# Altium schematic symbol library domino-spring-clamp.SchLib: 257 symbols (part 2 of 4)
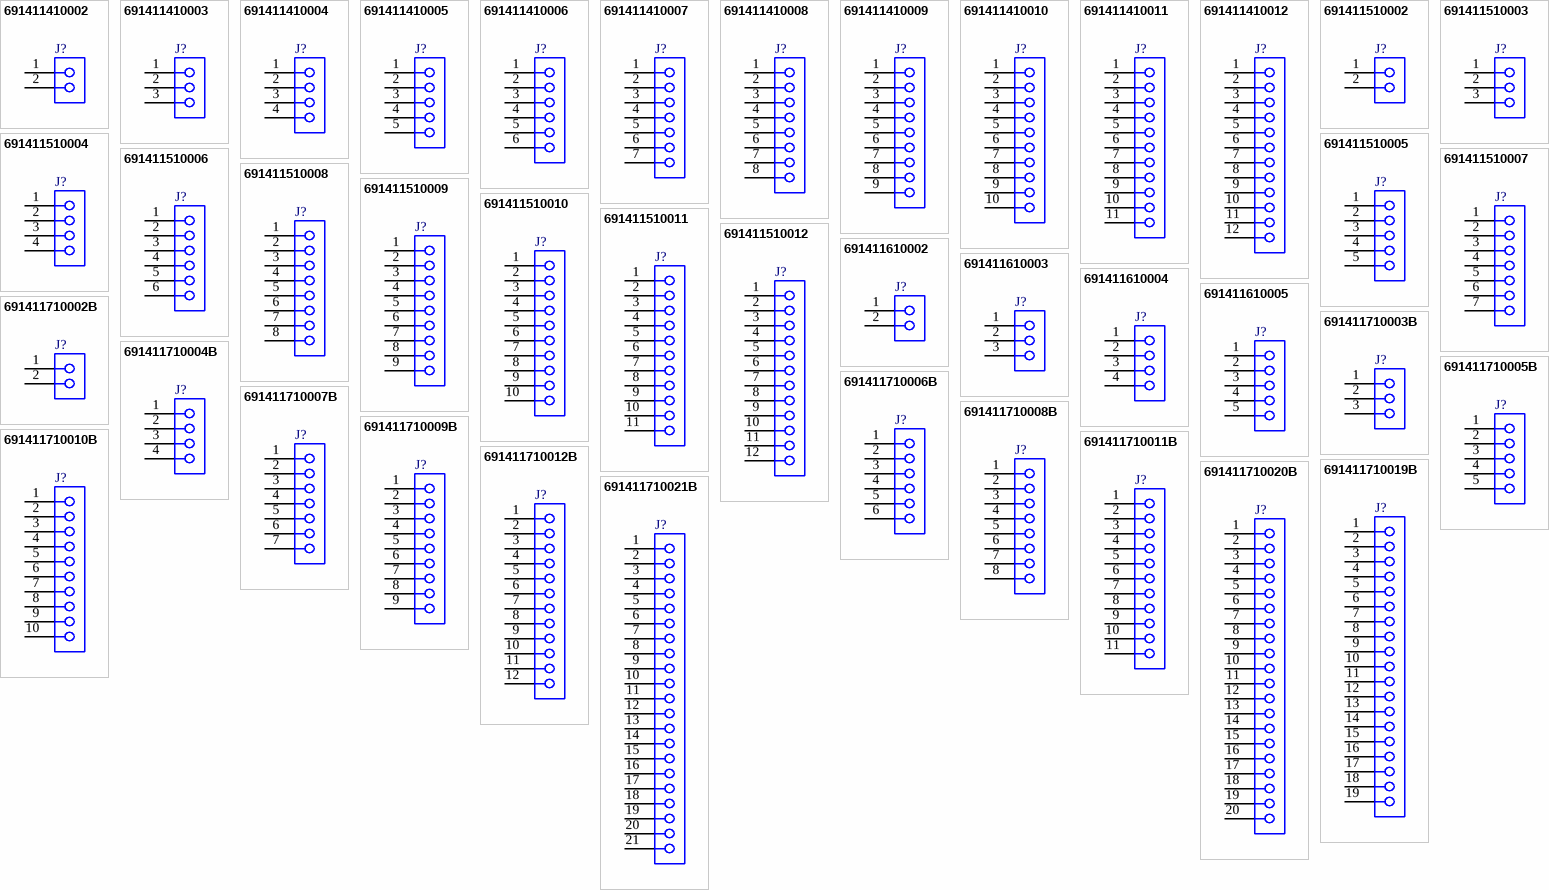
[diagram p7: symbols 691411410002 to 691411710021B]

## 691411710006B
designator J?
WR-TBL Serie 411B Horizontal Entry, Screwless, pitch 5mm, 6p; Part Number: 691411710006B; Compliance: RoHS; Modularity: No; PCB/Cable/Panel: PCB; Pin Number: 6; Rated Current [UL]: 10A; Working Voltage [UL]: 300VAC; ComponentLink1Description: Manufacturer; ComponentLink1URL: http://www.we-online.de; ComponentLink2URL: https://katalog.we-online.de/em/datasheet/691411710006B.pdf; ComponentLink2Description: Datasheet; Mounting Technology: THT; Packaging: Box; Operating Temperature: -40 to +105degC; Pitch: 5mm; Published Date: October 2019; Type: Horizontal; Publisher: Wurth Elektronik; Application: Screwless
footprint 691411710006B
pins: 1, 2, 3, 4, 5, 6

## 691411710007B
designator J?
WR-TBL Serie 411B Horizontal Entry, Screwless, pitch 5mm, 7p; Part Number: 691411710007B; Compliance: RoHS; Modularity: No; PCB/Cable/Panel: PCB; Pin Number: 7; Rated Current [UL]: 10A; Working Voltage [UL]: 300VAC; ComponentLink1Description: Manufacturer; ComponentLink1URL: http://www.we-online.de; ComponentLink2URL: https://katalog.we-online.de/em/datasheet/691411710007B.pdf; ComponentLink2Description: Datasheet; Mounting Technology: THT; Packaging: Box; Operating Temperature: -40 to +105degC; Pitch: 5mm; Published Date: October 2019; Type: Horizontal; Publisher: Wurth Elektronik; Application: Screwless
footprint 691411710007B
pins: 1, 2, 3, 4, 5, 6, 7

## 691411710008B
designator J?
WR-TBL Serie 411B Horizontal Entry, Screwless, pitch 5mm, 8p; Part Number: 691411710008B; Compliance: RoHS; Modularity: No; PCB/Cable/Panel: PCB; Pin Number: 8; Rated Current [UL]: 10A; Working Voltage [UL]: 300VAC; ComponentLink1Description: Manufacturer; ComponentLink1URL: http://www.we-online.de; ComponentLink2URL: https://katalog.we-online.de/em/datasheet/691411710008B.pdf; ComponentLink2Description: Datasheet; Mounting Technology: THT; Packaging: Box; Operating Temperature: -40 to +105degC; Pitch: 5mm; Published Date: October 2019; Type: Horizontal; Publisher: Wurth Elektronik; Application: Screwless
footprint 691411710008B
pins: 1, 2, 3, 4, 5, 6, 7, 8

## 691411710009B
designator J?
WR-TBL Serie 411B Horizontal Entry, Screwless, pitch 5mm, 9p; Part Number: 691411710009B; Compliance: RoHS; Modularity: No; PCB/Cable/Panel: PCB; Pin Number: 9; Rated Current [UL]: 10A; Working Voltage [UL]: 300VAC; ComponentLink1Description: Manufacturer; ComponentLink1URL: http://www.we-online.de; ComponentLink2URL: https://katalog.we-online.de/em/datasheet/691411710009B.pdf; ComponentLink2Description: Datasheet; Mounting Technology: THT; Packaging: Box; Operating Temperature: -40 to +105degC; Pitch: 5mm; Published Date: October 2019; Type: Horizontal; Publisher: Wurth Elektronik; Application: Screwless
footprint 691411710009B
pins: 1, 2, 3, 4, 5, 6, 7, 8, 9

## 691411710010B
designator J?
WR-TBL Serie 411B Horizontal Entry, Screwless, pitch 5mm, 10p; Part Number: 691411710010B; Compliance: RoHS; Modularity: No; PCB/Cable/Panel: PCB; Pin Number: 10; Rated Current [UL]: 10A; Working Voltage [UL]: 300VAC; ComponentLink1Description: Manufacturer; ComponentLink1URL: http://www.we-online.de; ComponentLink2URL: https://katalog.we-online.de/em/datasheet/691411710010B.pdf; ComponentLink2Description: Datasheet; Mounting Technology: THT; Packaging: Box; Operating Temperature: -40 to +105degC; Pitch: 5mm; Published Date: October 2019; Type: Horizontal; Publisher: Wurth Elektronik; Application: Screwless
footprint 691411710010B
pins: 1, 2, 3, 4, 5, 6, 7, 8, 9, 10

## 691411710011B
designator J?
WR-TBL Serie 411B Horizontal Entry, Screwless, pitch 5mm, 11p; Part Number: 691411710011B; Compliance: RoHS; Modularity: No; PCB/Cable/Panel: PCB; Pin Number: 11; Rated Current [UL]: 10A; Working Voltage [UL]: 300VAC; ComponentLink1Description: Manufacturer; ComponentLink1URL: http://www.we-online.de; ComponentLink2URL: https://katalog.we-online.de/em/datasheet/691411710011B.pdf; ComponentLink2Description: Datasheet; Mounting Technology: THT; Packaging: Box; Operating Temperature: -40 to +105degC; Pitch: 5mm; Published Date: October 2019; Type: Horizontal; Publisher: Wurth Elektronik; Application: Screwless
footprint 691411710011B
pins: 1, 2, 3, 4, 5, 6, 7, 8, 9, 10, 11

## 691411710012B
designator J?
WR-TBL Serie 411B Horizontal Entry, Screwless, pitch 5mm, 12p; Part Number: 691411710012B; Compliance: RoHS; Modularity: No; PCB/Cable/Panel: PCB; Pin Number: 12; Rated Current [UL]: 10A; Working Voltage [UL]: 300VAC; ComponentLink1Description: Manufacturer; ComponentLink1URL: http://www.we-online.de; ComponentLink2URL: https://katalog.we-online.de/em/datasheet/691411710012B.pdf; ComponentLink2Description: Datasheet; Mounting Technology: THT; Packaging: Box; Operating Temperature: -40 to +105degC; Pitch: 5mm; Published Date: October 2019; Type: Horizontal; Publisher: Wurth Elektronik; Application: Screwless
footprint 691411710012B
pins: 1, 2, 3, 4, 5, 6, 7, 8, 9, 10, 11, 12

## 691411710019B
designator J?
WR-TBL Serie 411B Horizontal Entry, Screwless, pitch 5mm, 19p; Part Number: 691411710019B; Compliance: RoHS; Modularity: No; PCB/Cable/Panel: PCB; Pin Number: 19; Rated Current [UL]: 10A; Working Voltage [UL]: 300VAC; ComponentLink1Description: Manufacturer; ComponentLink1URL: http://www.we-online.de; ComponentLink2URL: https://katalog.we-online.de/em/datasheet/691411710019B.pdf; ComponentLink2Description: Datasheet; Mounting Technology: THT; Packaging: Box; Operating Temperature: -40 to +105degC; Pitch: 5mm; Published Date: October 2019; Type: Horizontal; Publisher: Wurth Elektronik; Application: Screwless
footprint 691411710019B
pins: 1, 2, 3, 4, 5, 6, 7, 8, 9, 10, 11, 12, 13, 14, 15, 16, 17, 18, 19

## 691411710020B
designator J?
WR-TBL Serie 411B Horizontal Entry, Screwless, pitch 5mm, 20p; Part Number: 691411710020B; Compliance: RoHS; Modularity: No; PCB/Cable/Panel: PCB; Pin Number: 20; Rated Current [UL]: 10A; Working Voltage [UL]: 300VAC; ComponentLink1Description: Manufacturer; ComponentLink1URL: http://www.we-online.de; ComponentLink2URL: https://katalog.we-online.de/em/datasheet/691411710020B.pdf; ComponentLink2Description: Datasheet; Mounting Technology: THT; Packaging: Box; Operating Temperature: -40 to +105degC; Pitch: 5mm; Published Date: October 2019; Type: Horizontal; Publisher: Wurth Elektronik; Application: Screwless
footprint 691411710020B
pins: 1, 2, 3, 4, 5, 6, 7, 8, 9, 10, 11, 12, 13, 14, 15, 16, 17, 18, 19, 20

## 691411710021B
designator J?
WR-TBL Serie 411B Horizontal Entry, Screwless, pitch 5mm, 21p; Part Number: 691411710021B; Compliance: RoHS; Modularity: No; PCB/Cable/Panel: PCB; Pin Number: 21; Rated Current [UL]: 10A; Working Voltage [UL]: 300VAC; ComponentLink1Description: Manufacturer; ComponentLink1URL: http://www.we-online.de; ComponentLink2URL: https://katalog.we-online.de/em/datasheet/691411710021B.pdf; ComponentLink2Description: Datasheet; Mounting Technology: THT; Packaging: Box; Operating Temperature: -40 to +105degC; Pitch: 5mm; Published Date: October 2019; Type: Horizontal; Publisher: Wurth Elektronik; Application: Screwless
footprint 691411710021B
pins: 1, 2, 3, 4, 5, 6, 7, 8, 9, 10, 11, 12, 13, 14, 15, 16, 17, 18, 19, 20, 21

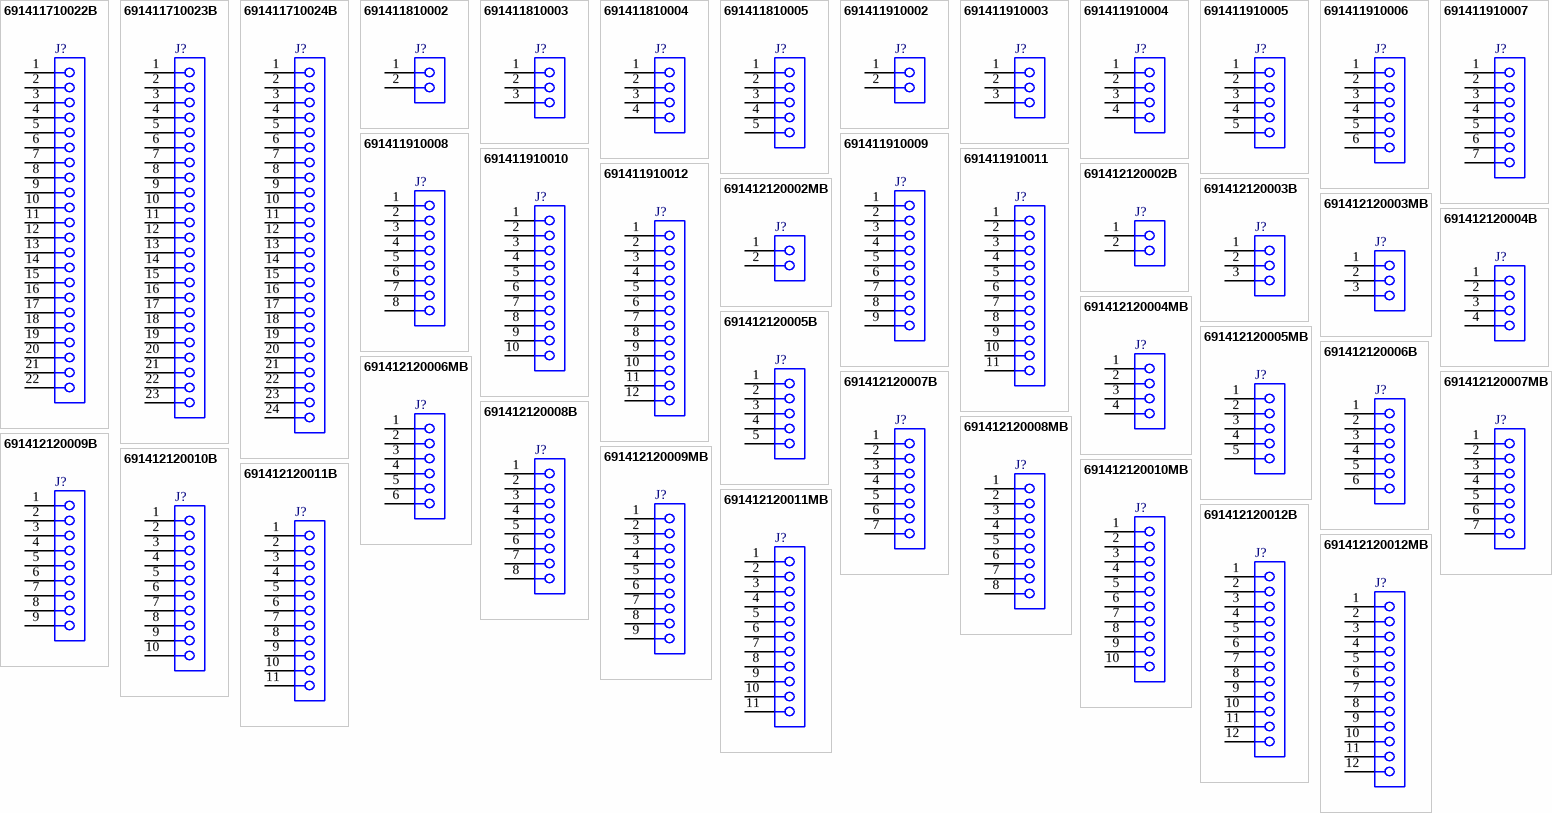
[diagram p2: symbols 691411710022B to 691412120012MB]

## 691411710022B
designator J?
WR-TBL Serie 411B Horizontal Entry, Screwless, pitch 5mm, 22p; Part Number: 691411710022B; Compliance: RoHS; Modularity: No; PCB/Cable/Panel: PCB; Pin Number: 22; Rated Current [UL]: 10A; Working Voltage [UL]: 300VAC; ComponentLink1Description: Manufacturer; ComponentLink1URL: http://www.we-online.de; ComponentLink2URL: https://katalog.we-online.de/em/datasheet/691411710022B.pdf; ComponentLink2Description: Datasheet; Mounting Technology: THT; Packaging: Box; Operating Temperature: -40 to +105degC; Pitch: 5mm; Published Date: October 2019; Type: Horizontal; Publisher: Wurth Elektronik; Application: Screwless
footprint 691411710022B
pins: 1, 2, 3, 4, 5, 6, 7, 8, 9, 10, 11, 12, 13, 14, 15, 16, 17, 18, 19, 20, 21, 22

## 691411710023B
designator J?
WR-TBL Serie 411B Horizontal Entry, Screwless, pitch 5mm, 23p; Part Number: 691411710023B; Compliance: RoHS; Modularity: No; PCB/Cable/Panel: PCB; Pin Number: 23; Rated Current [UL]: 10A; Working Voltage [UL]: 300VAC; ComponentLink1Description: Manufacturer; ComponentLink1URL: http://www.we-online.de; ComponentLink2URL: https://katalog.we-online.de/em/datasheet/691411710023B.pdf; ComponentLink2Description: Datasheet; Mounting Technology: THT; Packaging: Box; Operating Temperature: -40 to +105degC; Pitch: 5mm; Published Date: October 2019; Type: Horizontal; Publisher: Wurth Elektronik; Application: Screwless
footprint 691411710023B
pins: 1, 2, 3, 4, 5, 6, 7, 8, 9, 10, 11, 12, 13, 14, 15, 16, 17, 18, 19, 20, 21, 22, 23

## 691411710024B
designator J?
WR-TBL Serie 411B Horizontal Entry, Screwless, pitch 5mm, 24p; Part Number: 691411710024B; Compliance: RoHS; Modularity: No; PCB/Cable/Panel: PCB; Pin Number: 24; Rated Current [UL]: 10A; Working Voltage [UL]: 300VAC; ComponentLink1Description: Manufacturer; ComponentLink1URL: http://www.we-online.de; ComponentLink2URL: https://katalog.we-online.de/em/datasheet/691411710024B.pdf; ComponentLink2Description: Datasheet; Mounting Technology: THT; Packaging: Box; Operating Temperature: -40 to +105degC; Pitch: 5mm; Published Date: October 2019; Type: Horizontal; Publisher: Wurth Elektronik; Application: Screwless
footprint 691411710024B
pins: 1, 2, 3, 4, 5, 6, 7, 8, 9, 10, 11, 12, 13, 14, 15, 16, 17, 18, 19, 20, 21, 22, 23, 24

## 691411810002
designator J?
WR-TBL Serie 4118 Horizontal Entry, Screwless, pitch 10mm, 2p; Part Number: 691411810002; Compliance: Lead free / RoHS; Modularity: No; PCB/Cable/Panel: PCB; Pin Number: 2; Rated Current [UL]: 10A; Working Voltage [UL]: 300VAC; ComponentLink1Description: Manufacturer; ComponentLink1URL: http://www.we-online.de; ComponentLink2URL: https://katalog.we-online.de/em/datasheet/691411810002.pdf; ComponentLink2Description: Datasheet; Mounting Technology: THT; Packaging: Box; Operating Temperature: -30 to +120degC; Pitch: 10mm; Published Date: October 2019; Type: Horizontal; Publisher: Wurth Elektronik; Application: Screwless
footprint 691411810002
pins: 1, 2

## 691411810003
designator J?
WR-TBL Serie 4118 Horizontal Entry, Screwless, pitch 10mm, 3p; Part Number: 691411810003; Compliance: Lead free / RoHS; Modularity: No; PCB/Cable/Panel: PCB; Pin Number: 3; Rated Current [UL]: 10A; Working Voltage [UL]: 300VAC; ComponentLink1Description: Manufacturer; ComponentLink1URL: http://www.we-online.de; ComponentLink2URL: https://katalog.we-online.de/em/datasheet/691411810003.pdf; ComponentLink2Description: Datasheet; Mounting Technology: THT; Packaging: Box; Operating Temperature: -30 to +120degC; Pitch: 10mm; Published Date: October 2019; Type: Horizontal; Publisher: Wurth Elektronik; Application: Screwless
footprint 691411810003
pins: 1, 2, 3

## 691411810004
designator J?
WR-TBL Serie 4118 Horizontal Entry, Screwless, pitch 10mm, 4p; Part Number: 691411810004; Compliance: Lead free / RoHS; Modularity: No; PCB/Cable/Panel: PCB; Pin Number: 4; Rated Current [UL]: 10A; Working Voltage [UL]: 300VAC; ComponentLink1Description: Manufacturer; ComponentLink1URL: http://www.we-online.de; ComponentLink2URL: https://katalog.we-online.de/em/datasheet/691411810004.pdf; ComponentLink2Description: Datasheet; Mounting Technology: THT; Packaging: Box; Operating Temperature: -30 to +120degC; Pitch: 10mm; Published Date: October 2019; Type: Horizontal; Publisher: Wurth Elektronik; Application: Screwless
footprint 691411810004
pins: 1, 2, 3, 4

## 691411810005
designator J?
WR-TBL Serie 4118 Horizontal Entry, Screwless, pitch 10mm, 5p; Part Number: 691411810005; Compliance: Lead free / RoHS; Modularity: No; PCB/Cable/Panel: PCB; Pin Number: 5; Rated Current [UL]: 10A; Working Voltage [UL]: 300VAC; ComponentLink1Description: Manufacturer; ComponentLink1URL: http://www.we-online.de; ComponentLink2URL: https://katalog.we-online.de/em/datasheet/691411810005.pdf; ComponentLink2Description: Datasheet; Mounting Technology: THT; Packaging: Box; Operating Temperature: -30 to +120degC; Pitch: 10mm; Published Date: October 2019; Type: Horizontal; Publisher: Wurth Elektronik; Application: Screwless
footprint 691411810005
pins: 1, 2, 3, 4, 5

## 691411910002
designator J?
WR-TBL Serie 4119 Horizontal Entry, Screwless, pitch 7.5mm, 2p; Part Number: 691411910002; Compliance: ROHS & Reach; Modularity: No; PCB/Cable/Panel: PCB; Pin Number: 2; Rated Current [UL]: 10A; Working Voltage [UL]: 300VAC; ComponentLink1Description: Manufacturer; ComponentLink1URL: http://www.we-online.de; ComponentLink2URL: https://katalog.we-online.de/em/datasheet/691411910002.pdf; ComponentLink2Description: Datasheet; Mounting Technology: THT; Packaging: Box; Operating Temperature: -30 to +120degC; Pitch: 7.5mm; Published Date: October 2019; Type: Horizontal; Publisher: Wurth Elektronik; Application: Screwless
footprint 691411910002
pins: 1, 2

## 691411910003
designator J?
WR-TBL Serie 4119 Horizontal Entry, Screwless, pitch 7.5mm, 3p; Part Number: 691411910003; Compliance: ROHS & Reach; Modularity: No; PCB/Cable/Panel: PCB; Pin Number: 3; Rated Current [UL]: 10A; Working Voltage [UL]: 300VAC; ComponentLink1Description: Manufacturer; ComponentLink1URL: http://www.we-online.de; ComponentLink2URL: https://katalog.we-online.de/em/datasheet/691411910003.pdf; ComponentLink2Description: Datasheet; Mounting Technology: THT; Packaging: Box; Operating Temperature: -30 to +120degC; Pitch: 7.5mm; Published Date: October 2019; Type: Horizontal; Publisher: Wurth Elektronik; Application: Screwless
footprint 691411910003
pins: 1, 2, 3

## 691411910004
designator J?
WR-TBL Serie 4119 Horizontal Entry, Screwless, pitch 7.5mm, 4p; Part Number: 691411910004; Compliance: ROHS & Reach; Modularity: No; PCB/Cable/Panel: PCB; Pin Number: 4; Rated Current [UL]: 10A; Working Voltage [UL]: 300VAC; ComponentLink1Description: Manufacturer; ComponentLink1URL: http://www.we-online.de; ComponentLink2URL: https://katalog.we-online.de/em/datasheet/691411910004.pdf; ComponentLink2Description: Datasheet; Mounting Technology: THT; Packaging: Box; Operating Temperature: -30 to +120degC; Pitch: 7.5mm; Published Date: October 2019; Type: Horizontal; Publisher: Wurth Elektronik; Application: Screwless
footprint 691411910004
pins: 1, 2, 3, 4

## 691411910005
designator J?
WR-TBL Serie 4119 Horizontal Entry, Screwless, pitch 7.5mm, 5p; Part Number: 691411910005; Compliance: ROHS & Reach; Modularity: No; PCB/Cable/Panel: PCB; Pin Number: 5; Rated Current [UL]: 10A; Working Voltage [UL]: 300VAC; ComponentLink1Description: Manufacturer; ComponentLink1URL: http://www.we-online.de; ComponentLink2URL: https://katalog.we-online.de/em/datasheet/691411910005.pdf; ComponentLink2Description: Datasheet; Mounting Technology: THT; Packaging: Box; Operating Temperature: -30 to +120degC; Pitch: 7.5mm; Published Date: October 2019; Type: Horizontal; Publisher: Wurth Elektronik; Application: Screwless
footprint 691411910005
pins: 1, 2, 3, 4, 5

## 691411910006
designator J?
WR-TBL Serie 4119 Horizontal Entry, Screwless, pitch 7.5mm, 6p; Part Number: 691411910006; Compliance: ROHS & Reach; Modularity: No; PCB/Cable/Panel: PCB; Pin Number: 6; Rated Current [UL]: 10A; Working Voltage [UL]: 300VAC; ComponentLink1Description: Manufacturer; ComponentLink1URL: http://www.we-online.de; ComponentLink2URL: https://katalog.we-online.de/em/datasheet/691411910006.pdf; ComponentLink2Description: Datasheet; Mounting Technology: THT; Packaging: Box; Operating Temperature: -30 to +120degC; Pitch: 7.5mm; Published Date: October 2019; Type: Horizontal; Publisher: Wurth Elektronik; Application: Screwless
footprint 691411910006
pins: 1, 2, 3, 4, 5, 6

## 691411910007
designator J?
WR-TBL Serie 4119 Horizontal Entry, Screwless, pitch 7.5mm, 7p; Part Number: 691411910007; Compliance: ROHS & Reach; Modularity: No; PCB/Cable/Panel: PCB; Pin Number: 7; Rated Current [UL]: 10A; Working Voltage [UL]: 300VAC; ComponentLink1Description: Manufacturer; ComponentLink1URL: http://www.we-online.de; ComponentLink2URL: https://katalog.we-online.de/em/datasheet/691411910007.pdf; ComponentLink2Description: Datasheet; Mounting Technology: THT; Packaging: Box; Operating Temperature: -30 to +120degC; Pitch: 7.5mm; Published Date: October 2019; Type: Horizontal; Publisher: Wurth Elektronik; Application: Screwless
footprint 691411910007
pins: 1, 2, 3, 4, 5, 6, 7

## 691411910008
designator J?
WR-TBL Serie 4119 Horizontal Entry, Screwless, pitch 7.5mm, 8p; Part Number: 691411910008; Compliance: ROHS & Reach; Modularity: No; PCB/Cable/Panel: PCB; Pin Number: 8; Rated Current [UL]: 10A; Working Voltage [UL]: 300VAC; ComponentLink1Description: Manufacturer; ComponentLink1URL: http://www.we-online.de; ComponentLink2URL: https://katalog.we-online.de/em/datasheet/691411910008.pdf; ComponentLink2Description: Datasheet; Mounting Technology: THT; Packaging: Box; Operating Temperature: -30 to +120degC; Pitch: 7.5mm; Published Date: October 2019; Type: Horizontal; Publisher: Wurth Elektronik; Application: Screwless
footprint 691411910008
pins: 1, 2, 3, 4, 5, 6, 7, 8

## 691411910009
designator J?
WR-TBL Serie 4119 Horizontal Entry, Screwless, pitch 7.5mm, 9p; Part Number: 691411910009; Compliance: ROHS & Reach; Modularity: No; PCB/Cable/Panel: PCB; Pin Number: 9; Rated Current [UL]: 10A; Working Voltage [UL]: 300VAC; ComponentLink1Description: Manufacturer; ComponentLink1URL: http://www.we-online.de; ComponentLink2URL: https://katalog.we-online.de/em/datasheet/691411910009.pdf; ComponentLink2Description: Datasheet; Mounting Technology: THT; Packaging: Box; Operating Temperature: -30 to +120degC; Pitch: 7.5mm; Published Date: October 2019; Type: Horizontal; Publisher: Wurth Elektronik; Application: Screwless
footprint 691411910009
pins: 1, 2, 3, 4, 5, 6, 7, 8, 9

## 691411910010
designator J?
WR-TBL Serie 4119 Horizontal Entry, Screwless, pitch 7.5mm, 10p; Part Number: 691411910010; Compliance: ROHS & Reach; Modularity: No; PCB/Cable/Panel: PCB; Pin Number: 10; Rated Current [UL]: 10A; Working Voltage [UL]: 300VAC; ComponentLink1Description: Manufacturer; ComponentLink1URL: http://www.we-online.de; ComponentLink2URL: https://katalog.we-online.de/em/datasheet/691411910010.pdf; ComponentLink2Description: Datasheet; Mounting Technology: THT; Packaging: Box; Operating Temperature: -30 to +120degC; Pitch: 7.5mm; Published Date: October 2019; Type: Horizontal; Publisher: Wurth Elektronik; Application: Screwless
footprint 691411910010
pins: 1, 2, 3, 4, 5, 6, 7, 8, 9, 10

## 691411910011
designator J?
WR-TBL Serie 4119 Horizontal Entry, Screwless, pitch 7.5mm, 11p; Part Number: 691411910011; Compliance: ROHS & Reach; Modularity: No; PCB/Cable/Panel: PCB; Pin Number: 11; Rated Current [UL]: 10A; Working Voltage [UL]: 300VAC; ComponentLink1Description: Manufacturer; ComponentLink1URL: http://www.we-online.de; ComponentLink2URL: https://katalog.we-online.de/em/datasheet/691411910011.pdf; ComponentLink2Description: Datasheet; Mounting Technology: THT; Packaging: Box; Operating Temperature: -30 to +120degC; Pitch: 7.5mm; Published Date: October 2019; Type: Horizontal; Publisher: Wurth Elektronik; Application: Screwless
footprint 691411910011
pins: 1, 2, 3, 4, 5, 6, 7, 8, 9, 10, 11

## 691411910012
designator J?
WR-TBL Serie 4119 Horizontal Entry, Screwless, pitch 7.5mm, 12p; Part Number: 691411910012; Compliance: ROHS & Reach; Modularity: No; PCB/Cable/Panel: PCB; Pin Number: 12; Rated Current [UL]: 10A; Working Voltage [UL]: 300VAC; ComponentLink1Description: Manufacturer; ComponentLink1URL: http://www.we-online.de; ComponentLink2URL: https://katalog.we-online.de/em/datasheet/691411910012.pdf; ComponentLink2Description: Datasheet; Mounting Technology: THT; Packaging: Box; Operating Temperature: -30 to +120degC; Pitch: 7.5mm; Published Date: October 2019; Type: Horizontal; Publisher: Wurth Elektronik; Application: Screwless
footprint 691411910012
pins: 1, 2, 3, 4, 5, 6, 7, 8, 9, 10, 11, 12

## 691412120002B
designator J?
WR-TBL Serie 412B 45deg Entry, Screwless, pitch 3.5mm, 2p; Part Number: 691412120002B; Compliance: RoHS; Modularity: No; PCB/Cable/Panel: PCB; Pin Number: 2; Rated Current [UL]: 6A; Working Voltage [UL]: 300VAC; ComponentLink1Description: Manufacturer; ComponentLink1URL: http://www.we-online.de; ComponentLink2URL: https://katalog.we-online.de/em/datasheet/691412120002B.pdf; ComponentLink2Description: Datasheet; Mounting Technology: THT; Packaging: Box; Operating Temperature: -40 to +105degC; Pitch: 3.5mm; Published Date: October 2019; Type: 45deg; Publisher: Wurth Elektronik; Application: Screwless
footprint 691412120002B
pins: 1, 2

## 691412120002MB
designator J?
WR-TBL Serie 412MB 45deg Entry, Screwless, pitch 3.5mm, 2p; Part Number: 691412120002MB; Compliance: RoHS; Modularity: No; PCB/Cable/Panel: PCB; Pin Number: 2; Rated Current [UL]: 6A; Working Voltage [UL]: 300VAC; ComponentLink1Description: Manufacturer; ComponentLink1URL: http://www.we-online.de; ComponentLink2URL: https://katalog.we-online.de/em/datasheet/691412120002MB.pdf; ComponentLink2Description: Datasheet; Mounting Technology: THT; Packaging: Box; Operating Temperature: -40 to +105degC; Pitch: 3.5mm; Published Date: October 2019; Type: 45deg; Publisher: Wurth Elektronik; Application: Screwless
footprint 691412120002MB
pins: 1, 2

## 691412120003B
designator J?
WR-TBL Serie 412B 45deg Entry, Screwless, pitch 3.5mm, 3p; Part Number: 691412120003B; Compliance: RoHS; Modularity: No; PCB/Cable/Panel: PCB; Pin Number: 3; Rated Current [UL]: 6A; Working Voltage [UL]: 300VAC; ComponentLink1Description: Manufacturer; ComponentLink1URL: http://www.we-online.de; ComponentLink2URL: https://katalog.we-online.de/em/datasheet/691412120003B.pdf; ComponentLink2Description: Datasheet; Mounting Technology: THT; Packaging: Box; Operating Temperature: -40 to +105degC; Pitch: 3.5mm; Published Date: October 2019; Type: 45deg; Publisher: Wurth Elektronik; Application: Screwless
footprint 691412120003B
pins: 1, 2, 3

## 691412120003MB
designator J?
WR-TBL Serie 412MB 45deg Entry, Screwless, pitch 3.5mm, 3p; Part Number: 691412120003MB; Compliance: RoHS; Modularity: No; PCB/Cable/Panel: PCB; Pin Number: 3; Rated Current [UL]: 6A; Working Voltage [UL]: 300VAC; ComponentLink1Description: Manufacturer; ComponentLink1URL: http://www.we-online.de; ComponentLink2URL: https://katalog.we-online.de/em/datasheet/691412120003MB.pdf; ComponentLink2Description: Datasheet; Mounting Technology: THT; Packaging: Box; Operating Temperature: -40 to +105degC; Pitch: 3.5mm; Published Date: October 2019; Type: 45deg; Publisher: Wurth Elektronik; Application: Screwless
footprint 691412120003MB
pins: 1, 2, 3

## 691412120004B
designator J?
WR-TBL Serie 412B 45deg Entry, Screwless, pitch 3.5mm, 4p; Part Number: 691412120004B; Compliance: RoHS; Modularity: No; PCB/Cable/Panel: PCB; Pin Number: 4; Rated Current [UL]: 6A; Working Voltage [UL]: 300VAC; ComponentLink1Description: Manufacturer; ComponentLink1URL: http://www.we-online.de; ComponentLink2URL: https://katalog.we-online.de/em/datasheet/691412120004B.pdf; ComponentLink2Description: Datasheet; Mounting Technology: THT; Packaging: Box; Operating Temperature: -40 to +105degC; Pitch: 3.5mm; Published Date: October 2019; Type: 45deg; Publisher: Wurth Elektronik; Application: Screwless
footprint 691412120004B
pins: 1, 2, 3, 4

## 691412120004MB
designator J?
WR-TBL Serie 412MB 45deg Entry, Screwless, pitch 3.5mm, 4p; Part Number: 691412120004MB; Compliance: RoHS; Modularity: No; PCB/Cable/Panel: PCB; Pin Number: 4; Rated Current [UL]: 6A; Working Voltage [UL]: 300VAC; ComponentLink1Description: Manufacturer; ComponentLink1URL: http://www.we-online.de; ComponentLink2URL: https://katalog.we-online.de/em/datasheet/691412120004MB.pdf; ComponentLink2Description: Datasheet; Mounting Technology: THT; Packaging: Box; Operating Temperature: -40 to +105degC; Pitch: 3.5mm; Published Date: October 2019; Type: 45deg; Publisher: Wurth Elektronik; Application: Screwless
footprint 691412120004MB
pins: 1, 2, 3, 4

## 691412120005B
designator J?
WR-TBL Serie 412B 45deg Entry, Screwless, pitch 3.5mm, 5p; Part Number: 691412120005B; Compliance: RoHS; Modularity: No; PCB/Cable/Panel: PCB; Pin Number: 5; Rated Current [UL]: 6A; Working Voltage [UL]: 300VAC; ComponentLink1Description: Manufacturer; ComponentLink1URL: http://www.we-online.de; ComponentLink2URL: https://katalog.we-online.de/em/datasheet/691412120005B.pdf; ComponentLink2Description: Datasheet; Mounting Technology: THT; Packaging: Box; Operating Temperature: -40 to +105degC; Pitch: 3.5mm; Published Date: October 2019; Type: 45deg; Publisher: Wurth Elektronik; Application: Screwless
footprint 691412120005B
pins: 1, 2, 3, 4, 5

## 691412120005MB
designator J?
WR-TBL Serie 412MB 45deg Entry, Screwless, pitch 3.5mm, 5p; Part Number: 691412120005MB; Compliance: RoHS; Modularity: No; PCB/Cable/Panel: PCB; Pin Number: 5; Rated Current [UL]: 6A; Working Voltage [UL]: 300VAC; ComponentLink1Description: Manufacturer; ComponentLink1URL: http://www.we-online.de; ComponentLink2URL: https://katalog.we-online.de/em/datasheet/691412120005MB.pdf; ComponentLink2Description: Datasheet; Mounting Technology: THT; Packaging: Box; Operating Temperature: -40 to +105degC; Pitch: 3.5mm; Published Date: October 2019; Type: 45deg; Publisher: Wurth Elektronik; Application: Screwless
footprint 691412120005MB
pins: 1, 2, 3, 4, 5

## 691412120006B
designator J?
WR-TBL Serie 412B 45deg Entry, Screwless, pitch 3.5mm, 6p; Part Number: 691412120006B; Compliance: RoHS; Modularity: No; PCB/Cable/Panel: PCB; Pin Number: 6; Rated Current [UL]: 6A; Working Voltage [UL]: 300VAC; ComponentLink1Description: Manufacturer; ComponentLink1URL: http://www.we-online.de; ComponentLink2URL: https://katalog.we-online.de/em/datasheet/691412120006B.pdf; ComponentLink2Description: Datasheet; Mounting Technology: THT; Packaging: Box; Operating Temperature: -40 to +105degC; Pitch: 3.5mm; Published Date: October 2019; Type: 45deg; Publisher: Wurth Elektronik; Application: Screwless
footprint 691412120006B
pins: 1, 2, 3, 4, 5, 6

## 691412120006MB
designator J?
WR-TBL Serie 412MB 45deg Entry, Screwless, pitch 3.5mm, 6p; Part Number: 691412120006MB; Compliance: RoHS; Modularity: No; PCB/Cable/Panel: PCB; Pin Number: 6; Rated Current [UL]: 6A; Working Voltage [UL]: 300VAC; ComponentLink1Description: Manufacturer; ComponentLink1URL: http://www.we-online.de; ComponentLink2URL: https://katalog.we-online.de/em/datasheet/691412120006MB.pdf; ComponentLink2Description: Datasheet; Mounting Technology: THT; Packaging: Box; Operating Temperature: -40 to +105degC; Pitch: 3.5mm; Published Date: October 2019; Type: 45deg; Publisher: Wurth Elektronik; Application: Screwless
footprint 691412120006MB
pins: 1, 2, 3, 4, 5, 6

## 691412120007B
designator J?
WR-TBL Serie 412B 45deg Entry, Screwless, pitch 3.5mm, 7p; Part Number: 691412120007B; Compliance: RoHS; Modularity: No; PCB/Cable/Panel: PCB; Pin Number: 7; Rated Current [UL]: 6A; Working Voltage [UL]: 300VAC; ComponentLink1Description: Manufacturer; ComponentLink1URL: http://www.we-online.de; ComponentLink2URL: https://katalog.we-online.de/em/datasheet/691412120007B.pdf; ComponentLink2Description: Datasheet; Mounting Technology: THT; Packaging: Box; Operating Temperature: -40 to +105degC; Pitch: 3.5mm; Published Date: October 2019; Type: 45deg; Publisher: Wurth Elektronik; Application: Screwless
footprint 691412120007B
pins: 1, 2, 3, 4, 5, 6, 7

## 691412120007MB
designator J?
WR-TBL Serie 412MB 45deg Entry, Screwless, pitch 3.5mm, 7p; Part Number: 691412120007MB; Compliance: RoHS; Modularity: No; PCB/Cable/Panel: PCB; Pin Number: 7; Rated Current [UL]: 6A; Working Voltage [UL]: 300VAC; ComponentLink1Description: Manufacturer; ComponentLink1URL: http://www.we-online.de; ComponentLink2URL: https://katalog.we-online.de/em/datasheet/691412120007MB.pdf; ComponentLink2Description: Datasheet; Mounting Technology: THT; Packaging: Box; Operating Temperature: -40 to +105degC; Pitch: 3.5mm; Published Date: October 2019; Type: 45deg; Publisher: Wurth Elektronik; Application: Screwless
footprint 691412120007MB
pins: 1, 2, 3, 4, 5, 6, 7

## 691412120008B
designator J?
WR-TBL Serie 412B 45deg Entry, Screwless, pitch 3.5mm, 8p; Part Number: 691412120008B; Compliance: RoHS; Modularity: No; PCB/Cable/Panel: PCB; Pin Number: 8; Rated Current [UL]: 6A; Working Voltage [UL]: 300VAC; ComponentLink1Description: Manufacturer; ComponentLink1URL: http://www.we-online.de; ComponentLink2URL: https://katalog.we-online.de/em/datasheet/691412120008B.pdf; ComponentLink2Description: Datasheet; Mounting Technology: THT; Packaging: Box; Operating Temperature: -40 to +105degC; Pitch: 3.5mm; Published Date: October 2019; Type: 45deg; Publisher: Wurth Elektronik; Application: Screwless
footprint 691412120008B
pins: 1, 2, 3, 4, 5, 6, 7, 8

## 691412120008MB
designator J?
WR-TBL Serie 412MB 45deg Entry, Screwless, pitch 3.5mm, 8p; Part Number: 691412120008MB; Compliance: RoHS; Modularity: No; PCB/Cable/Panel: PCB; Pin Number: 8; Rated Current [UL]: 6A; Working Voltage [UL]: 300VAC; ComponentLink1Description: Manufacturer; ComponentLink1URL: http://www.we-online.de; ComponentLink2URL: https://katalog.we-online.de/em/datasheet/691412120008MB.pdf; ComponentLink2Description: Datasheet; Mounting Technology: THT; Packaging: Box; Operating Temperature: -40 to +105degC; Pitch: 3.5mm; Published Date: October 2019; Type: 45deg; Publisher: Wurth Elektronik; Application: Screwless
footprint 691412120008MB
pins: 1, 2, 3, 4, 5, 6, 7, 8

## 691412120009B
designator J?
WR-TBL Serie 412B 45deg Entry, Screwless, pitch 3.5mm, 9p; Part Number: 691412120009B; Compliance: RoHS; Modularity: No; PCB/Cable/Panel: PCB; Pin Number: 9; Rated Current [UL]: 6A; Working Voltage [UL]: 300VAC; ComponentLink1Description: Manufacturer; ComponentLink1URL: http://www.we-online.de; ComponentLink2URL: https://katalog.we-online.de/em/datasheet/691412120009B.pdf; ComponentLink2Description: Datasheet; Mounting Technology: THT; Packaging: Box; Operating Temperature: -40 to +105degC; Pitch: 3.5mm; Published Date: October 2019; Type: 45deg; Publisher: Wurth Elektronik; Application: Screwless
footprint 691412120009B
pins: 1, 2, 3, 4, 5, 6, 7, 8, 9

## 691412120009MB
designator J?
WR-TBL Serie 412MB 45deg Entry, Screwless, pitch 3.5mm, 9p; Part Number: 691412120009MB; Compliance: RoHS; Modularity: No; PCB/Cable/Panel: PCB; Pin Number: 9; Rated Current [UL]: 6A; Working Voltage [UL]: 300VAC; ComponentLink1Description: Manufacturer; ComponentLink1URL: http://www.we-online.de; ComponentLink2URL: https://katalog.we-online.de/em/datasheet/691412120009MB.pdf; ComponentLink2Description: Datasheet; Mounting Technology: THT; Packaging: Box; Operating Temperature: -40 to +105degC; Pitch: 3.5mm; Published Date: October 2019; Type: 45deg; Publisher: Wurth Elektronik; Application: Screwless
footprint 691412120009MB
pins: 1, 2, 3, 4, 5, 6, 7, 8, 9

## 691412120010B
designator J?
WR-TBL Serie 412B 45deg Entry, Screwless, pitch 3.5mm, 10p; Part Number: 691412120010B; Compliance: RoHS; Modularity: No; PCB/Cable/Panel: PCB; Pin Number: 10; Rated Current [UL]: 6A; Working Voltage [UL]: 300VAC; ComponentLink1Description: Manufacturer; ComponentLink1URL: http://www.we-online.de; ComponentLink2URL: https://katalog.we-online.de/em/datasheet/691412120010B.pdf; ComponentLink2Description: Datasheet; Mounting Technology: THT; Packaging: Box; Operating Temperature: -40 to +105degC; Pitch: 3.5mm; Published Date: October 2019; Type: 45deg; Publisher: Wurth Elektronik; Application: Screwless
footprint 691412120010B
pins: 1, 2, 3, 4, 5, 6, 7, 8, 9, 10

## 691412120010MB
designator J?
WR-TBL Serie 412MB 45deg Entry, Screwless, pitch 3.5mm, 10p; Part Number: 691412120010MB; Compliance: RoHS; Modularity: No; PCB/Cable/Panel: PCB; Pin Number: 10; Rated Current [UL]: 6A; Working Voltage [UL]: 300VAC; ComponentLink1Description: Manufacturer; ComponentLink1URL: http://www.we-online.de; ComponentLink2URL: https://katalog.we-online.de/em/datasheet/691412120010MB.pdf; ComponentLink2Description: Datasheet; Mounting Technology: THT; Packaging: Box; Operating Temperature: -40 to +105degC; Pitch: 3.5mm; Published Date: October 2019; Type: 45deg; Publisher: Wurth Elektronik; Application: Screwless
footprint 691412120010MB
pins: 1, 2, 3, 4, 5, 6, 7, 8, 9, 10

## 691412120011B
designator J?
WR-TBL Serie 412B 45deg Entry, Screwless, pitch 3.5mm, 11p; Part Number: 691412120011B; Compliance: RoHS; Modularity: No; PCB/Cable/Panel: PCB; Pin Number: 11; Rated Current [UL]: 6A; Working Voltage [UL]: 300VAC; ComponentLink1Description: Manufacturer; ComponentLink1URL: http://www.we-online.de; ComponentLink2URL: https://katalog.we-online.de/em/datasheet/691412120011B.pdf; ComponentLink2Description: Datasheet; Mounting Technology: THT; Packaging: Box; Operating Temperature: -40 to +105degC; Pitch: 3.5mm; Published Date: October 2019; Type: 45deg; Publisher: Wurth Elektronik; Application: Screwless
footprint 691412120011B
pins: 1, 2, 3, 4, 5, 6, 7, 8, 9, 10, 11

## 691412120011MB
designator J?
WR-TBL Serie 412MB 45deg Entry, Screwless, pitch 3.5mm, 11p; Part Number: 691412120011MB; Compliance: RoHS; Modularity: No; PCB/Cable/Panel: PCB; Pin Number: 11; Rated Current [UL]: 6A; Working Voltage [UL]: 300VAC; ComponentLink1Description: Manufacturer; ComponentLink1URL: http://www.we-online.de; ComponentLink2URL: https://katalog.we-online.de/em/datasheet/691412120011MB.pdf; ComponentLink2Description: Datasheet; Mounting Technology: THT; Packaging: Box; Operating Temperature: -40 to +105degC; Pitch: 3.5mm; Published Date: October 2019; Type: 45deg; Publisher: Wurth Elektronik; Application: Screwless
footprint 691412120011MB
pins: 1, 2, 3, 4, 5, 6, 7, 8, 9, 10, 11

## 691412120012B
designator J?
WR-TBL Serie 412B 45deg Entry, Screwless, pitch 3.5mm, 12p; Part Number: 691412120012B; Compliance: RoHS; Modularity: No; PCB/Cable/Panel: PCB; Pin Number: 12; Rated Current [UL]: 6A; Working Voltage [UL]: 300VAC; ComponentLink1Description: Manufacturer; ComponentLink1URL: http://www.we-online.de; ComponentLink2URL: https://katalog.we-online.de/em/datasheet/691412120012B.pdf; ComponentLink2Description: Datasheet; Mounting Technology: THT; Packaging: Box; Operating Temperature: -40 to +105degC; Pitch: 3.5mm; Published Date: October 2019; Type: 45deg; Publisher: Wurth Elektronik; Application: Screwless
footprint 691412120012B
pins: 1, 2, 3, 4, 5, 6, 7, 8, 9, 10, 11, 12

## 691412120012MB
designator J?
WR-TBL Serie 412MB 45deg Entry, Screwless, pitch 3.5mm, 12p; Part Number: 691412120012MB; Compliance: RoHS; Modularity: No; PCB/Cable/Panel: PCB; Pin Number: 12; Rated Current [UL]: 6A; Working Voltage [UL]: 300VAC; ComponentLink1Description: Manufacturer; ComponentLink1URL: http://www.we-online.de; ComponentLink2URL: https://katalog.we-online.de/em/datasheet/691412120012MB.pdf; ComponentLink2Description: Datasheet; Mounting Technology: THT; Packaging: Box; Operating Temperature: -40 to +105degC; Pitch: 3.5mm; Published Date: October 2019; Type: 45deg; Publisher: Wurth Elektronik; Application: Screwless
footprint 691412120012MB
pins: 1, 2, 3, 4, 5, 6, 7, 8, 9, 10, 11, 12

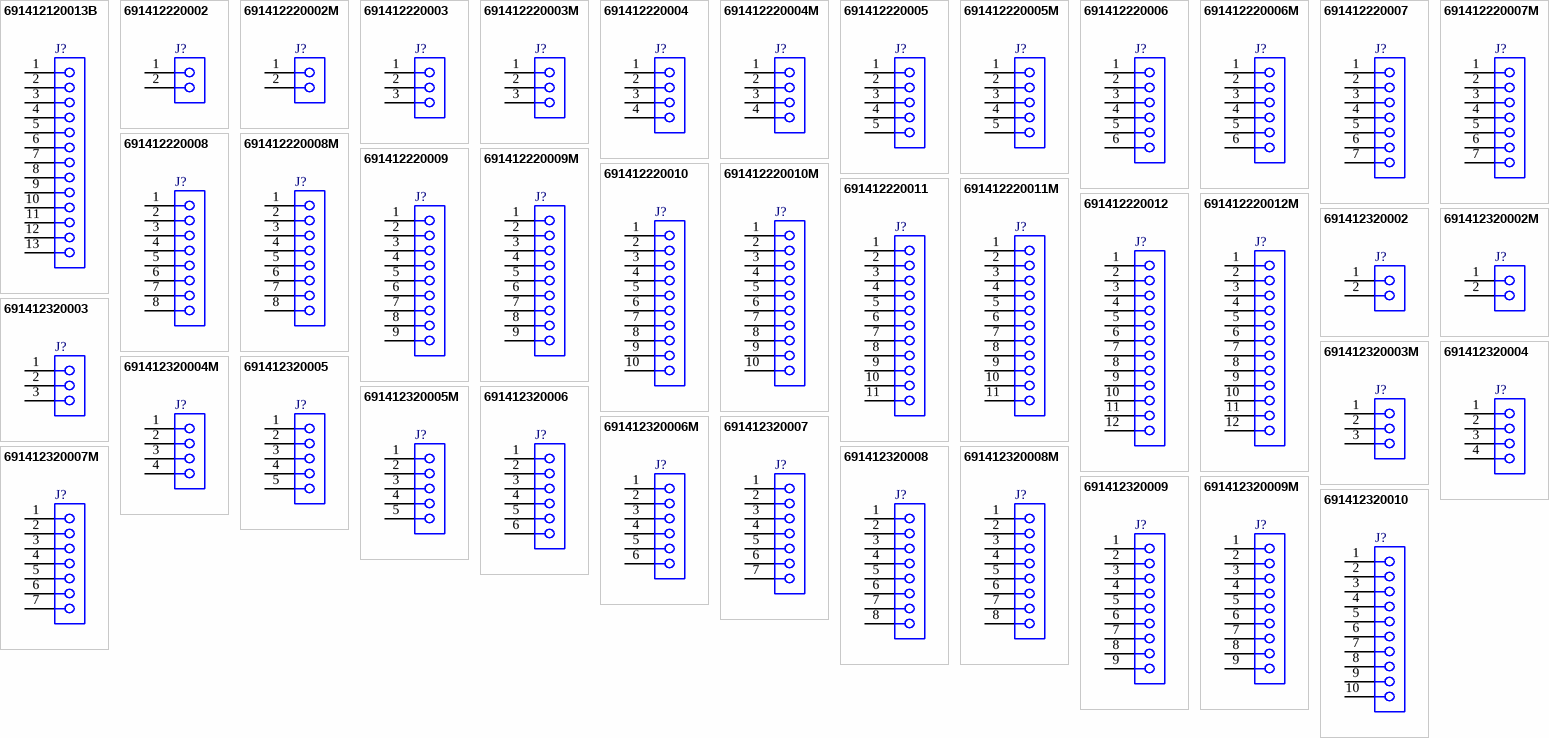
[diagram p3: symbols 691412120013B to 691412320010]

## 691412120013B
designator J?
WR-TBL Serie 412B 45deg Entry, Screwless, pitch 3.5mm, 13p; Part Number: 691412120013B; Compliance: RoHS; Modularity: No; PCB/Cable/Panel: PCB; Pin Number: 13; Rated Current [UL]: 6A; Working Voltage [UL]: 300VAC; ComponentLink1Description: Manufacturer; ComponentLink1URL: http://www.we-online.de; ComponentLink2URL: https://katalog.we-online.de/em/datasheet/691412120013B.pdf; ComponentLink2Description: Datasheet; Mounting Technology: THT; Packaging: Box; Operating Temperature: -40 to +105degC; Pitch: 3.5mm; Published Date: October 2019; Type: 45deg; Publisher: Wurth Elektronik; Application: Screwless
footprint 691412120013B
pins: 1, 2, 3, 4, 5, 6, 7, 8, 9, 10, 11, 12, 13

## 691412220002
designator J?
WR-TBL Serie 4122 45deg Entry, Screwless, pitch 7mm, 2p; Part Number: 691412220002; Compliance: Lead free / RoHS; Modularity: No; PCB/Cable/Panel: PCB; Pin Number: 2; Rated Current [UL]: 4A; Working Voltage [UL]: 300VAC; ComponentLink1Description: Manufacturer; ComponentLink1URL: http://www.we-online.de; ComponentLink2URL: https://katalog.we-online.de/em/datasheet/691412220002.pdf; ComponentLink2Description: Datasheet; Mounting Technology: THT; Packaging: Box; Operating Temperature: -30 to +120degC; Pitch: 7mm; Published Date: October 2019; Type: 45deg; Publisher: Wurth Elektronik; Application: Screwless
footprint 691412220002
pins: 1, 2

## 691412220002M
designator J?
WR-TBL Serie 4122M 45deg Entry, Screwless, pitch 7mm, 2p; Part Number: 691412220002M; Compliance: Lead free / RoHS; Modularity: No; PCB/Cable/Panel: PCB; Pin Number: 2; Rated Current [UL]: 4A; Working Voltage [UL]: 300VAC; ComponentLink1Description: Manufacturer; ComponentLink1URL: http://www.we-online.de; ComponentLink2URL: https://katalog.we-online.de/em/datasheet/691412220002M.pdf; ComponentLink2Description: Datasheet; Mounting Technology: THT; Packaging: Box; Operating Temperature: -30 to +120degC; Pitch: 7mm; Published Date: October 2019; Type: 45deg; Publisher: Wurth Elektronik; Application: Screwless
footprint 691412220002M
pins: 1, 2

## 691412220003
designator J?
WR-TBL Serie 4122 45deg Entry, Screwless, pitch 7mm, 3p; Part Number: 691412220003; Compliance: Lead free / RoHS; Modularity: No; PCB/Cable/Panel: PCB; Pin Number: 3; Rated Current [UL]: 4A; Working Voltage [UL]: 300VAC; ComponentLink1Description: Manufacturer; ComponentLink1URL: http://www.we-online.de; ComponentLink2URL: https://katalog.we-online.de/em/datasheet/691412220003.pdf; ComponentLink2Description: Datasheet; Mounting Technology: THT; Packaging: Box; Operating Temperature: -30 to +120degC; Pitch: 7mm; Published Date: October 2019; Type: 45deg; Publisher: Wurth Elektronik; Application: Screwless
footprint 691412220003
pins: 1, 2, 3

## 691412220003M
designator J?
WR-TBL Serie 4122M 45deg Entry, Screwless, pitch 7mm, 3p; Part Number: 691412220003M; Compliance: Lead free / RoHS; Modularity: No; PCB/Cable/Panel: PCB; Pin Number: 3; Rated Current [UL]: 4A; Working Voltage [UL]: 300VAC; ComponentLink1Description: Manufacturer; ComponentLink1URL: http://www.we-online.de; ComponentLink2URL: https://katalog.we-online.de/em/datasheet/691412220003M.pdf; ComponentLink2Description: Datasheet; Mounting Technology: THT; Packaging: Box; Operating Temperature: -30 to +120degC; Pitch: 7mm; Published Date: October 2019; Type: 45deg; Publisher: Wurth Elektronik; Application: Screwless
footprint 691412220003M
pins: 1, 2, 3

## 691412220004
designator J?
WR-TBL Serie 4122 45deg Entry, Screwless, pitch 7mm, 4p; Part Number: 691412220004; Compliance: Lead free / RoHS; Modularity: No; PCB/Cable/Panel: PCB; Pin Number: 4; Rated Current [UL]: 4A; Working Voltage [UL]: 300VAC; ComponentLink1Description: Manufacturer; ComponentLink1URL: http://www.we-online.de; ComponentLink2URL: https://katalog.we-online.de/em/datasheet/691412220004.pdf; ComponentLink2Description: Datasheet; Mounting Technology: THT; Packaging: Box; Operating Temperature: -30 to +120degC; Pitch: 7mm; Published Date: October 2019; Type: 45deg; Publisher: Wurth Elektronik; Application: Screwless
footprint 691412220004
pins: 1, 2, 3, 4

## 691412220004M
designator J?
WR-TBL Serie 4122M 45deg Entry, Screwless, pitch 7mm, 4p; Part Number: 691412220004M; Compliance: Lead free / RoHS; Modularity: No; PCB/Cable/Panel: PCB; Pin Number: 4; Rated Current [UL]: 4A; Working Voltage [UL]: 300VAC; ComponentLink1Description: Manufacturer; ComponentLink1URL: http://www.we-online.de; ComponentLink2URL: https://katalog.we-online.de/em/datasheet/691412220004M.pdf; ComponentLink2Description: Datasheet; Mounting Technology: THT; Packaging: Box; Operating Temperature: -30 to +120degC; Pitch: 7mm; Published Date: October 2019; Type: 45deg; Publisher: Wurth Elektronik; Application: Screwless
footprint 691412220004M
pins: 1, 2, 3, 4

## 691412220005
designator J?
WR-TBL Serie 4122 45deg Entry, Screwless, pitch 7mm, 5p; Part Number: 691412220005; Compliance: Lead free / RoHS; Modularity: No; PCB/Cable/Panel: PCB; Pin Number: 5; Rated Current [UL]: 4A; Working Voltage [UL]: 300VAC; ComponentLink1Description: Manufacturer; ComponentLink1URL: http://www.we-online.de; ComponentLink2URL: https://katalog.we-online.de/em/datasheet/691412220005.pdf; ComponentLink2Description: Datasheet; Mounting Technology: THT; Packaging: Box; Operating Temperature: -30 to +120degC; Pitch: 7mm; Published Date: October 2019; Type: 45deg; Publisher: Wurth Elektronik; Application: Screwless
footprint 691412220005
pins: 1, 2, 3, 4, 5

## 691412220005M
designator J?
WR-TBL Serie 4122M 45deg Entry, Screwless, pitch 7mm, 5p; Part Number: 691412220005M; Compliance: Lead free / RoHS; Modularity: No; PCB/Cable/Panel: PCB; Pin Number: 5; Rated Current [UL]: 4A; Working Voltage [UL]: 300VAC; ComponentLink1Description: Manufacturer; ComponentLink1URL: http://www.we-online.de; ComponentLink2URL: https://katalog.we-online.de/em/datasheet/691412220005M.pdf; ComponentLink2Description: Datasheet; Mounting Technology: THT; Packaging: Box; Operating Temperature: -30 to +120degC; Pitch: 7mm; Published Date: October 2019; Type: 45deg; Publisher: Wurth Elektronik; Application: Screwless
footprint 691412220005M
pins: 1, 2, 3, 4, 5

## 691412220006
designator J?
WR-TBL Serie 4122 45deg Entry, Screwless, pitch 7mm, 6p; Part Number: 691412220006; Compliance: Lead free / RoHS; Modularity: No; PCB/Cable/Panel: PCB; Pin Number: 6; Rated Current [UL]: 4A; Working Voltage [UL]: 300VAC; ComponentLink1Description: Manufacturer; ComponentLink1URL: http://www.we-online.de; ComponentLink2URL: https://katalog.we-online.de/em/datasheet/691412220006.pdf; ComponentLink2Description: Datasheet; Mounting Technology: THT; Packaging: Box; Operating Temperature: -30 to +120degC; Pitch: 7mm; Published Date: October 2019; Type: 45deg; Publisher: Wurth Elektronik; Application: Screwless
footprint 691412220006
pins: 1, 2, 3, 4, 5, 6

## 691412220006M
designator J?
WR-TBL Serie 4122M 45deg Entry, Screwless, pitch 7mm, 6p; Part Number: 691412220006M; Compliance: Lead free / RoHS; Modularity: No; PCB/Cable/Panel: PCB; Pin Number: 6; Rated Current [UL]: 4A; Working Voltage [UL]: 300VAC; ComponentLink1Description: Manufacturer; ComponentLink1URL: http://www.we-online.de; ComponentLink2URL: https://katalog.we-online.de/em/datasheet/691412220006M.pdf; ComponentLink2Description: Datasheet; Mounting Technology: THT; Packaging: Box; Operating Temperature: -30 to +120degC; Pitch: 7mm; Published Date: October 2019; Type: 45deg; Publisher: Wurth Elektronik; Application: Screwless
footprint 691412220006M
pins: 1, 2, 3, 4, 5, 6

## 691412220007
designator J?
WR-TBL Serie 4122 45deg Entry, Screwless, pitch 7mm, 7p; Part Number: 691412220007; Compliance: Lead free / RoHS; Modularity: No; PCB/Cable/Panel: PCB; Pin Number: 7; Rated Current [UL]: 4A; Working Voltage [UL]: 300VAC; ComponentLink1Description: Manufacturer; ComponentLink1URL: http://www.we-online.de; ComponentLink2URL: https://katalog.we-online.de/em/datasheet/691412220007.pdf; ComponentLink2Description: Datasheet; Mounting Technology: THT; Packaging: Box; Operating Temperature: -30 to +120degC; Pitch: 7mm; Published Date: October 2019; Type: 45deg; Publisher: Wurth Elektronik; Application: Screwless
footprint 691412220007
pins: 1, 2, 3, 4, 5, 6, 7

## 691412220007M
designator J?
WR-TBL Serie 4122M 45deg Entry, Screwless, pitch 7mm, 7p; Part Number: 691412220007M; Compliance: Lead free / RoHS; Modularity: No; PCB/Cable/Panel: PCB; Pin Number: 7; Rated Current [UL]: 4A; Working Voltage [UL]: 300VAC; ComponentLink1Description: Manufacturer; ComponentLink1URL: http://www.we-online.de; ComponentLink2URL: https://katalog.we-online.de/em/datasheet/691412220007M.pdf; ComponentLink2Description: Datasheet; Mounting Technology: THT; Packaging: Box; Operating Temperature: -30 to +120degC; Pitch: 7mm; Published Date: October 2019; Type: 45deg; Publisher: Wurth Elektronik; Application: Screwless
footprint 691412220007M
pins: 1, 2, 3, 4, 5, 6, 7

## 691412220008
designator J?
WR-TBL Serie 4122 45deg Entry, Screwless, pitch 7mm, 8p; Part Number: 691412220008; Compliance: Lead free / RoHS; Modularity: No; PCB/Cable/Panel: PCB; Pin Number: 8; Rated Current [UL]: 4A; Working Voltage [UL]: 300VAC; ComponentLink1Description: Manufacturer; ComponentLink1URL: http://www.we-online.de; ComponentLink2URL: https://katalog.we-online.de/em/datasheet/691412220008.pdf; ComponentLink2Description: Datasheet; Mounting Technology: THT; Packaging: Box; Operating Temperature: -30 to +120degC; Pitch: 7mm; Published Date: October 2019; Type: 45deg; Publisher: Wurth Elektronik; Application: Screwless
footprint 691412220008
pins: 1, 2, 3, 4, 5, 6, 7, 8

## 691412220008M
designator J?
WR-TBL Serie 4122M 45deg Entry, Screwless, pitch 7mm, 8p; Part Number: 691412220008M; Compliance: Lead free / RoHS; Modularity: No; PCB/Cable/Panel: PCB; Pin Number: 8; Rated Current [UL]: 4A; Working Voltage [UL]: 300VAC; ComponentLink1Description: Manufacturer; ComponentLink1URL: http://www.we-online.de; ComponentLink2URL: https://katalog.we-online.de/em/datasheet/691412220008M.pdf; ComponentLink2Description: Datasheet; Mounting Technology: THT; Packaging: Box; Operating Temperature: -30 to +120degC; Pitch: 7mm; Published Date: October 2019; Type: 45deg; Publisher: Wurth Elektronik; Application: Screwless
footprint 691412220008M
pins: 1, 2, 3, 4, 5, 6, 7, 8

## 691412220009
designator J?
WR-TBL Serie 4122 45deg Entry, Screwless, pitch 7mm, 9p; Part Number: 691412220009; Compliance: Lead free / RoHS; Modularity: No; PCB/Cable/Panel: PCB; Pin Number: 9; Rated Current [UL]: 4A; Working Voltage [UL]: 300VAC; ComponentLink1Description: Manufacturer; ComponentLink1URL: http://www.we-online.de; ComponentLink2URL: https://katalog.we-online.de/em/datasheet/691412220009.pdf; ComponentLink2Description: Datasheet; Mounting Technology: THT; Packaging: Box; Operating Temperature: -30 to +120degC; Pitch: 7mm; Published Date: October 2019; Type: 45deg; Publisher: Wurth Elektronik; Application: Screwless
footprint 691412220009
pins: 1, 2, 3, 4, 5, 6, 7, 8, 9

## 691412220009M
designator J?
WR-TBL Serie 4122M 45deg Entry, Screwless, pitch 7mm, 9p; Part Number: 691412220009M; Compliance: Lead free / RoHS; Modularity: No; PCB/Cable/Panel: PCB; Pin Number: 9; Rated Current [UL]: 4A; Working Voltage [UL]: 300VAC; ComponentLink1Description: Manufacturer; ComponentLink1URL: http://www.we-online.de; ComponentLink2URL: https://katalog.we-online.de/em/datasheet/691412220009M.pdf; ComponentLink2Description: Datasheet; Mounting Technology: THT; Packaging: Box; Operating Temperature: -30 to +120degC; Pitch: 7mm; Published Date: October 2019; Type: 45deg; Publisher: Wurth Elektronik; Application: Screwless
footprint 691412220009M
pins: 1, 2, 3, 4, 5, 6, 7, 8, 9

## 691412220010
designator J?
WR-TBL Serie 4122 45deg Entry, Screwless, pitch 7mm, 10p; Part Number: 691412220010; Compliance: Lead free / RoHS; Modularity: No; PCB/Cable/Panel: PCB; Pin Number: 10; Rated Current [UL]: 4A; Working Voltage [UL]: 300VAC; ComponentLink1Description: Manufacturer; ComponentLink1URL: http://www.we-online.de; ComponentLink2URL: https://katalog.we-online.de/em/datasheet/691412220010.pdf; ComponentLink2Description: Datasheet; Mounting Technology: THT; Packaging: Box; Operating Temperature: -30 to +120degC; Pitch: 7mm; Published Date: October 2019; Type: 45deg; Publisher: Wurth Elektronik; Application: Screwless
footprint 691412220010
pins: 1, 2, 3, 4, 5, 6, 7, 8, 9, 10

## 691412220010M
designator J?
WR-TBL Serie 4122M 45deg Entry, Screwless, pitch 7mm, 10p; Part Number: 691412220010M; Compliance: Lead free / RoHS; Modularity: No; PCB/Cable/Panel: PCB; Pin Number: 10; Rated Current [UL]: 4A; Working Voltage [UL]: 300VAC; ComponentLink1Description: Manufacturer; ComponentLink1URL: http://www.we-online.de; ComponentLink2URL: https://katalog.we-online.de/em/datasheet/691412220010M.pdf; ComponentLink2Description: Datasheet; Mounting Technology: THT; Packaging: Box; Operating Temperature: -30 to +120degC; Pitch: 7mm; Published Date: October 2019; Type: 45deg; Publisher: Wurth Elektronik; Application: Screwless
footprint 691412220010M
pins: 1, 2, 3, 4, 5, 6, 7, 8, 9, 10

## 691412220011
designator J?
WR-TBL Serie 4122 45deg Entry, Screwless, pitch 7mm, 11p; Part Number: 691412220011; Compliance: Lead free / RoHS; Modularity: No; PCB/Cable/Panel: PCB; Pin Number: 11; Rated Current [UL]: 4A; Working Voltage [UL]: 300VAC; ComponentLink1Description: Manufacturer; ComponentLink1URL: http://www.we-online.de; ComponentLink2URL: https://katalog.we-online.de/em/datasheet/691412220011.pdf; ComponentLink2Description: Datasheet; Mounting Technology: THT; Packaging: Box; Operating Temperature: -30 to +120degC; Pitch: 7mm; Published Date: October 2019; Type: 45deg; Publisher: Wurth Elektronik; Application: Screwless
footprint 691412220011
pins: 1, 2, 3, 4, 5, 6, 7, 8, 9, 10, 11

## 691412220011M
designator J?
WR-TBL Serie 4122M 45deg Entry, Screwless, pitch 7mm, 11p; Part Number: 691412220011M; Compliance: Lead free / RoHS; Modularity: No; PCB/Cable/Panel: PCB; Pin Number: 11; Rated Current [UL]: 4A; Working Voltage [UL]: 300VAC; ComponentLink1Description: Manufacturer; ComponentLink1URL: http://www.we-online.de; ComponentLink2URL: https://katalog.we-online.de/em/datasheet/691412220011M.pdf; ComponentLink2Description: Datasheet; Mounting Technology: THT; Packaging: Box; Operating Temperature: -30 to +120degC; Pitch: 7mm; Published Date: October 2019; Type: 45deg; Publisher: Wurth Elektronik; Application: Screwless
footprint 691412220011M
pins: 1, 2, 3, 4, 5, 6, 7, 8, 9, 10, 11